# Altium footprint library photo-elements.PCBLIB: 18 footprints (part 1 of 2)
Each footprint in its own frame and in the unit in brackets; x right, y up, seen from the top. Pads: shape width x height; smd on the part's side, far side on the other; paste and mask are expansions set on the pad; w line width, h text height; cw(c..) or ccw(c..) is an arc to the next point about the centre after c.
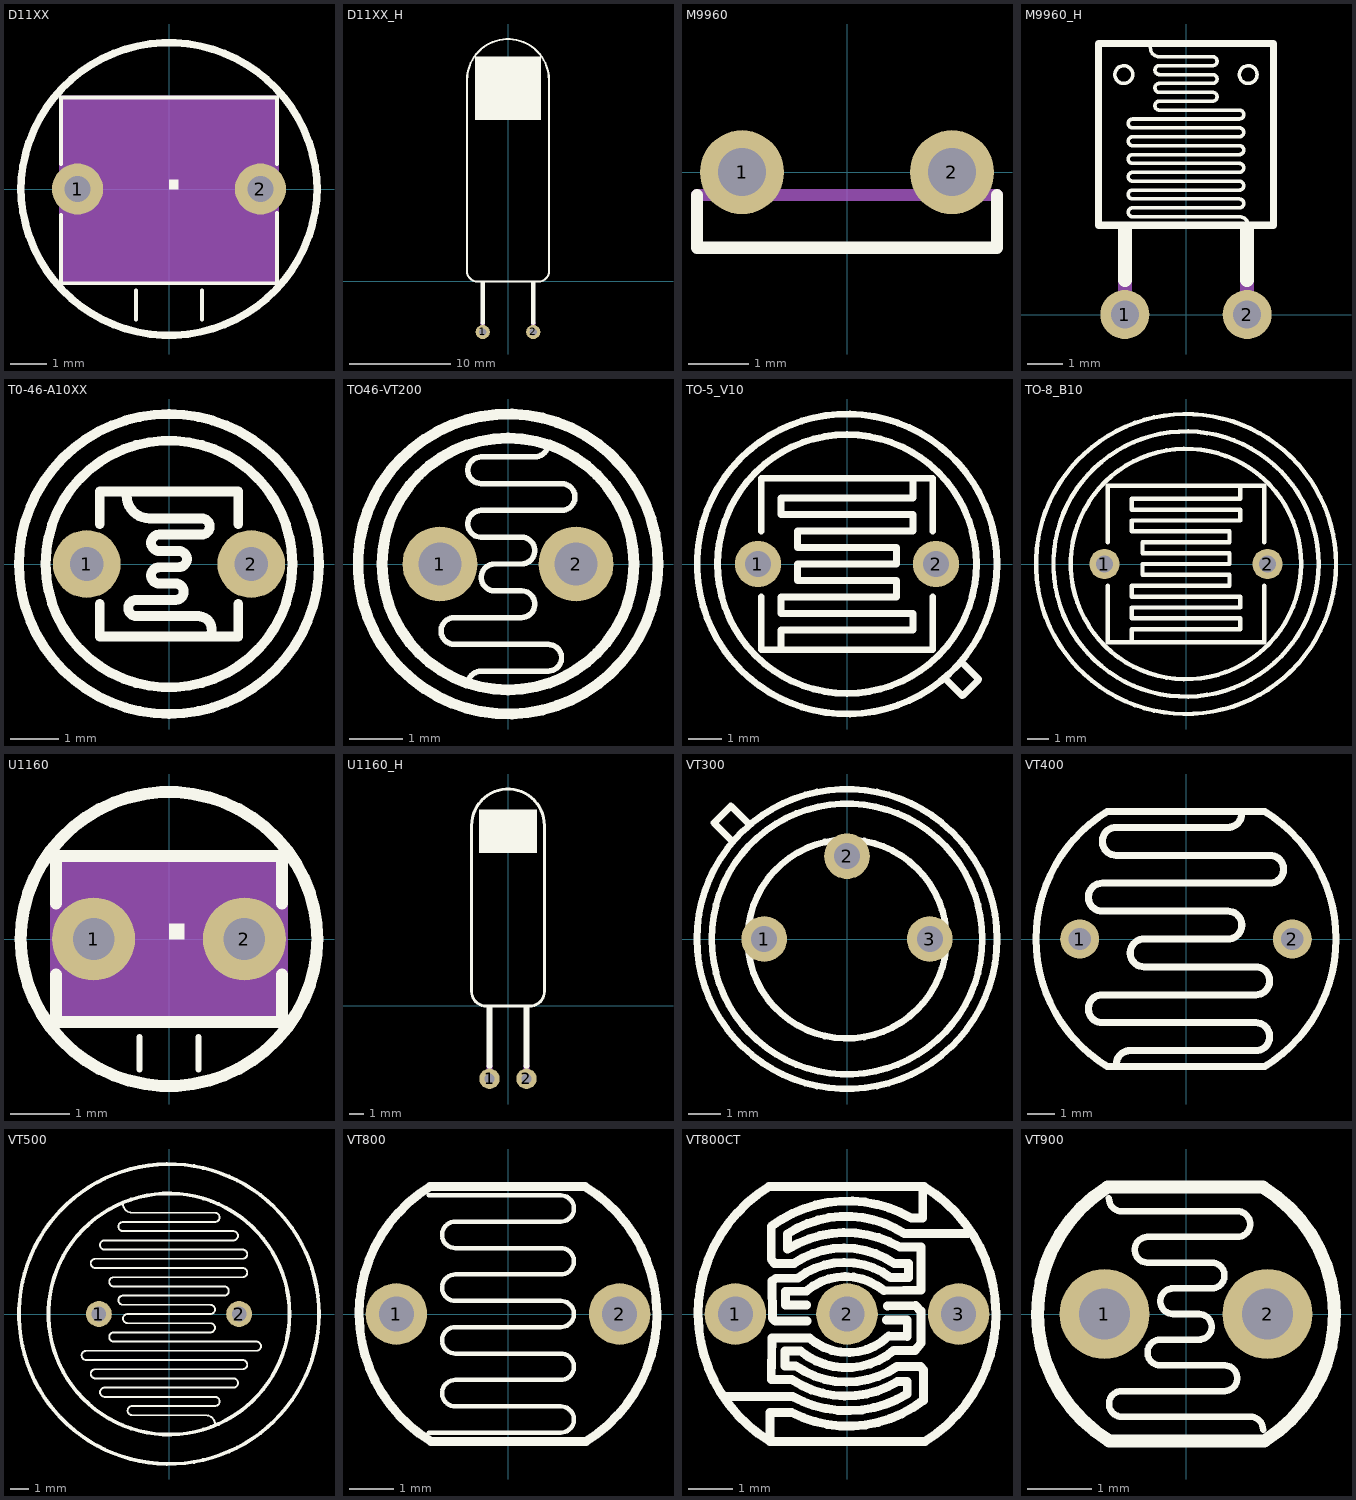
[diagram p0: the footprints below, top view; thin cyan lines are the x and y axes]

## D11XX [mm]
pads (2):
  round 1.4 hole 0.7: 1(-2.5,0) 2(2.5,0)
Top Overlay:
  region: 0,0 0.254,0 0.254,0.254 0,0.254
  region: 0,0 0.254,0 0.254,0.254 0,0.254
  lines w0.102: -2.95,-0.7 -2.95,-2.575 2.95,-2.575 2.95,-0.65 ; -2.95,0.675 -2.95,2.5 2.95,2.5 2.95,0.675 ; -0.9,-3.575 -0.9,-2.775 ; 0.9,-3.575 0.9,-2.775
  lines w0.203: -4.05,-0.05 cw(c0,-0.05) 4.05,-0.05 ; -4.05,0.05 ccw(c0,0.05) 4.05,0.05
Mechanical 16:
  rectangle: -3,-2.625 3,2.55

## D11XX_H [mm]
pads (2):
  round 1.4 hole 0.7: 1(-2.5,-5) 2(2.5,-5)
Top Overlay:
  rectangle: -3.25,16 3.25,22.25
  lines w0.203: -4.05,1 ccw(c-3.05,1) -3.05,0 3.05,0 ccw(c3.05,1) 4.05,1 4.05,19.95 ccw(c0,19.95) -4.05,19.95 -4.05,1
  lines w0.4: -2.5,-4.125 -2.5,-0.15 ; 2.5,-4.125 2.5,-0.15
Mechanical 16:
  lines w0.4: -2.5,-5 -2.5,-4.125 ; 2.5,-5 2.5,-4.125

## M9960 [mil]
pads (2):
  round 55.12 hole 31.5: 1(-68.9,0) 2(68.9,0)
Top Overlay:
  lines w8: -98.43,-14.88 -98.43,-49.61 98.43,-49.61 98.43,-14.88
Mechanical 16:
  lines w8: -98.43,-14.88 98.43,-14.88
  lines w15.75: -68.9,-11.1 -68.9,0 ; 68.9,-11.1 68.9,0

## M9960_H [mil]
pads (2):
  round 55.12 hole 31.5: 1(-68.9,0) 2(68.9,0)
Top Overlay:
  circle w4: c-70,270 r10
  circle w4: c70,270 r10
  lines w4: -40,300 ccw(c-30,300) -30,290 30,290 cw(c30,285) 30,280 -30,280 ccw(c-30,275) -30,270 30,270 cw(c30,265) 30,260 -30,260 ccw(c-30,255) -30,250 30,250 cw(c30,245) 30,240 -30,240 ccw(c-30,235) -30,230 60,230 cw(c60,225) 60,220 -60,220 ccw(c-60,215) -60,210 60,210 cw(c60,205) 60,200 -60,200 ccw(c-60,195) -60,190 60,190 cw(c60,185) 60,180 -60,180 ccw(c-60,175) -60,170 60,170 cw(c60,165) 60,160 -60,160 ccw(c-60,155) -60,150 60,150 cw(c60,145) 60,140 -60,140 ccw(c-60,135) -60,130 60,130 cw(c60,125) 60,120 -60,120 ccw(c-60,115) -60,110 60,110 cw(c60,100) 70,100
  lines w8: -98.43,100.39 -98.43,305.12 98.43,305.12 98.43,100.39 -98.43,100.39
  lines w15.75: -68.9,38.9 -68.9,95.83 ; 68.9,38.9 68.9,95.83
Mechanical 16:
  lines w15.75: -68.9,0 -68.9,38.9 ; 68.9,0 68.9,38.9

## T0-46-A10XX [mm]
pads (2):
  round 1.4 hole 0.7: 1(-1.7,0) 2(1.7,0)
Top Overlay:
  circle w0.203: c0,0 r3.1
  circle w0.203: c0,0 r2.55
  lines w0.203: -1.433,-0.825 -1.433,-1.5 1.433,-1.5 1.433,-0.825 ; -1.433,0.825 -1.433,1.5 1.433,1.5 1.433,0.825 ; -0.876,1.415 ccw(c-0.404,1.415) -0.404,0.943 0.674,0.943 cw(c0.674,0.775) 0.674,0.606 -0.202,0.606 ccw(c-0.202,0.438) -0.202,0.269 0.202,0.269 cw(c0.202,0.101) 0.202,-0.067 -0.202,-0.067 ccw(c-0.202,-0.236) -0.202,-0.404 0.135,-0.404 cw(c0.135,-0.573) 0.135,-0.741 -0.674,-0.741 ccw(c-0.674,-0.909) -0.674,-1.078 0.606,-1.078 cw(c0.606,-1.354) 0.876,-1.415

## TO46-VT200 [mil]
pads (2):
  round 55.12 hole 31.5: 1(-50,0) 2(50,0)
Top Overlay:
  circle w8: c0,0 r110.24
  circle w8: c0,0 r92.52
  lines w4: -29.53,-88.58 cw(c-19.69,-88.58) -19.69,-78.74 29.53,-78.74 ccw(c29.53,-68.9) 29.53,-59.06 -39.37,-59.06 cw(c-39.37,-49.22) -39.37,-39.37 9.84,-39.37 ccw(c9.84,-29.53) 9.84,-19.69 -9.84,-19.69 cw(c-9.84,-9.85) -9.84,0 9.84,0 ccw(c9.84,9.85) 9.84,19.69 -19.69,19.69 cw(c-19.69,29.53) -19.69,39.37 39.37,39.37 ccw(c39.37,49.22) 39.37,59.06 -19.69,59.06 cw(c-19.69,68.9) -19.69,78.74 19.69,78.74 ccw(c19.69,88.58) 29.53,88.58

## TO-5_V10 [mil]
pads (2):
  round 55.12 hole 31.5: 1(-106.3,0) 2(106.3,0)
Top Overlay:
  circle w8: c0,0 r154.57
  circle w8: c0,0 r179.13
  lines w8: -102.36,-39.37 -102.36,-102.36 102.36,-102.36 102.36,-39.37 ; -102.36,39.37 -102.36,102.36 102.36,102.36 102.36,39.37 ; -78.74,-98.43 -78.74,-78.74 78.74,-78.74 78.74,-59.06 -78.74,-59.06 -78.74,-39.37 59.06,-39.37 59.06,-19.69 -59.06,-19.69 -59.06,0 59.06,0 59.06,19.69 -59.06,19.69 -59.06,39.37 78.74,39.37 78.74,59.06 -78.74,59.06 -78.74,78.74 78.74,78.74 78.74,98.43 ; 118.11,-137.8 137.8,-157.48 157.48,-137.8 137.8,-118.11

## TO-8_B10 [mil]
pads (2):
  round 55.12 hole 31.5: 1(-147.64,0) 2(147.64,0)
Top Overlay:
  circle w8: c0,0 r271.66
  circle w8: c0,0 r240.17
  circle w8: c0,0 r208.67
  lines w8: -141.73,-39.37 -141.73,-141.73 141.73,-141.73 141.73,-39.37 ; -141.73,39.37 -141.73,141.73 141.73,141.73 141.73,39.37 ; -98.43,-137.8 -98.43,-118.11 98.43,-118.11 98.43,-98.43 -98.43,-98.43 -98.43,-78.74 98.43,-78.74 98.43,-59.06 -98.43,-59.06 -98.43,-39.37 78.74,-39.37 78.74,-19.69 -78.74,-19.69 -78.74,0 78.74,0 78.74,19.69 -78.74,19.69 -78.74,39.37 78.74,39.37 78.74,59.06 -98.43,59.06 -98.43,78.74 98.43,78.74 98.43,98.43 -98.43,98.43 -98.43,118.11 98.43,118.11 98.43,137.8

## U1160 [mm]
pads (2):
  round 1.4 hole 0.7: 1(-1.27,0) 2(1.27,0)
Top Overlay:
  region: 0,0 0.254,0 0.254,0.254 0,0.254
  region: 0,0 0.254,0 0.254,0.254 0,0.254
  lines w0.102: -0.5,-2.2 -0.5,-1.65 ; 0.5,-2.2 0.5,-1.65
  lines w0.203: -2.5,-0.025 cw(c0,-0.025) 2.5,-0.025 ; -2.5,0.025 ccw(c0,0.025) 2.5,0.025 ; -1.9,-0.6 -1.9,-1.4 1.9,-1.4 1.9,-0.6 ; -1.9,0.6 -1.9,1.4 1.9,1.4 1.9,0.6
Mechanical 16:
  rectangle: -2,-1.5 2,1.5

## U1160_H [mm]
pads (2):
  round 1.4 hole 0.7: 1(-1.27,-5) 2(1.27,-5)
Top Overlay:
  rectangle: -2,10.5 2,13.5
  lines w0.203: -2.5,1 ccw(c-1.5,1) -1.5,0 1.5,0 ccw(c1.5,1) 2.5,1 2.5,12.4 ccw(c0,12.4) -2.5,12.4 -2.5,1
  lines w0.4: -1.27,-4.125 -1.27,-0.15 ; 1.27,-4.125 1.27,-0.15
Mechanical 16:
  lines w0.4: -1.27,-5 -1.27,-4.125 ; 1.27,-5 1.27,-4.125

## VT300 [mil]
pads (3):
  round 55.12 hole 31.5: 1(-100,0) 2(0,100) 3(100,0)
Top Overlay:
  circle w8: c0,0 r120.08
  circle w8: c0,0 r163.39
  circle w8: c0,0 r181.1
  lines w8: -140.16,119.69 -160.63,140.16 -140.16,160.63 -119.69,140.16

## VT400 [mil]
pads (2):
  round 55.12 hole 31.5: 1(-150,0) 2(150,0)
Top Overlay:
  lines w10: -111.22,-180.12 cw(c0,0) -111.22,180.12 ; -110.24,-180.12 108.27,-180.12 ; -108.27,180.12 110.24,180.12 ; -98.43,-177.17 cw(c-78.74,-177.17) -78.74,-157.48 98.43,-157.48 ccw(c98.43,-137.79) 98.43,-118.11 -118.11,-118.11 cw(c-118.11,-98.42) -118.11,-78.74 98.43,-78.74 ccw(c98.43,-59.05) 98.43,-39.37 -59.06,-39.37 cw(c-59.06,-19.68) -59.06,0 59.06,0 ccw(c59.06,19.68) 59.06,39.37 -118.11,39.37 cw(c-118.11,59.05) -118.11,78.74 118.11,78.74 ccw(c118.11,98.42) 118.11,118.11 -98.43,118.11 cw(c-98.43,137.79) -98.43,157.48 59.06,157.48 ccw(c59.05,177.16) 78.74,177.17 ; 111.22,-180.12 ccw(c0,0) 111.22,180.12

## VT500 [mil]
pads (2):
  round 55.12 hole 31.5: 1(-150,0) 2(150,0)
Top Overlay:
  circle w8: c0,0 r320.88
  circle w8: c0,0 r257.89
  lines w4: -98.43,236.22 ccw(c-78.75,236.22) -78.74,216.54 98.43,216.54 cw(c98.43,206.69) 98.43,196.85 -98.43,196.85 ccw(c-98.43,187.01) -98.43,177.17 137.8,177.17 cw(c137.8,167.32) 137.8,157.48 -137.8,157.48 ccw(c-137.8,147.64) -137.8,137.8 157.48,137.8 cw(c157.48,127.95) 157.48,118.11 -157.48,118.11 ccw(c-157.48,108.27) -157.48,98.43 157.48,98.43 cw(c157.48,88.58) 157.48,78.74 -118.11,78.74 ccw(c-118.11,68.9) -118.11,59.06 118.11,59.06 cw(c118.11,49.22) 118.11,39.37 -98.43,39.37 ccw(c-98.43,29.53) -98.43,19.69 88.58,19.69 cw(c88.58,9.85) 88.58,0 -88.58,0 ccw(c-88.58,-9.85) -88.58,-19.69 88.58,-19.69 cw(c88.58,-29.53) 88.58,-39.37 -118.11,-39.37 ccw(c-118.11,-49.22) -118.11,-59.06 187.01,-59.06 cw(c187.01,-68.9) 187.01,-78.74 -177.17,-78.74 ccw(c-177.17,-88.58) -177.17,-98.43 157.48,-98.43 cw(c157.48,-108.27) 157.48,-118.11 -157.48,-118.11 ccw(c-157.48,-127.95) -157.48,-137.8 137.8,-137.8 cw(c137.8,-147.64) 137.8,-157.48 -137.8,-157.48 ccw(c-137.8,-167.32) -137.8,-177.17 98.43,-177.17 cw(c98.43,-187.01) 98.43,-196.85 -78.74,-196.85 ccw(c-78.74,-206.69) -78.74,-216.54 78.74,-216.54 cw(c78.75,-236.22) 98.43,-236.22

## VT800 [mil]
pads (2):
  round 55.12 hole 31.5: 1(-100,0) 2(100,0)
Top Overlay:
  lines w4: -70.87,-106.3 47.24,-106.3 ccw(c47.24,-94.49) 47.24,-82.68 -47.24,-82.68 cw(c-47.24,-70.87) -47.24,-59.06 47.24,-59.06 ccw(c47.24,-47.24) 47.24,-35.43 -47.24,-35.43 cw(c-47.24,-23.62) -47.24,-11.81 47.24,-11.81 ccw(c47.24,0) 47.24,11.81 -47.24,11.81 cw(c-47.24,23.62) -47.24,35.43 47.24,35.43 ccw(c47.24,47.24) 47.24,59.06 -47.24,59.06 cw(c-47.24,70.87) -47.24,82.68 47.24,82.68 ccw(c47.24,94.49) 47.24,106.3 -70.87,106.3
  lines w8: -69.88,114.17 68.9,114.17 cw(c-0.49,-0.3) 69.88,-114.17 -68.9,-114.17 cw(c0.49,0.3) -69.88,114.17

## VT800CT [mil]
pads (3):
  round 55.12 hole 31.5: 1(-100,0) 2(0,0) 3(100,0)
Top Overlay:
  lines w8: -107.89,-73.7 -49.14,-73.7 ccw(c0.58,15.47) 53.94,-71.57 53.94,-60.35 45.4,-60.35 cw(c-0.8,13.88) -49.47,-58.75 -67.83,-58.75 -67.3,-21.36 -33.65,-21.36 ccw(c1.02,17.4) 37.39,-19.76 53.94,-20.3 53.94,-5.34 35.53,-5.34 ; -68.9,-108.96 -68.9,-88.13 -49.67,-88.13 ccw(c0.93,10.1) 68.36,-77.44 68.36,-50.2 65.69,-47 44.86,-47 cw(c-0.15,18.22) -45.93,-46.46 -55.55,-46.46 -55.55,-33.11 -41.66,-33.11 ccw(c-0.22,16.9) 41.86,-32.58 60.89,-32.58 66.23,-26.17 66.23,2.67 61.42,7.48 36.35,7.03 ; -36.07,8.01 -55.01,8.01 -55.01,20.3 -36.42,20.67 cw(c-1.48,-20.65) 33.28,20.83 66.23,21.36 66.23,59.82 47.54,59.82 ccw(c-1.35,-24.78) -53.15,58.07 -53.15,71.85 cw(c-0.75,-7.97) 51.27,72.1 107.89,72.1 ; -35.78,-6.41 -64.09,-6.41 -66.76,-3.74 -67.3,29.37 -63.56,32.05 -44.08,32.05 cw(c-2.11,-22.65) 39.16,32.58 55.01,32.58 55.12,45.28 42.32,45.28 ccw(c-2.7,-20.88) -47.54,45.4 -65.16,45.4 -67.83,49.14 -67.83,78.51 cw(c0.63,-13.52) 57.68,85.99 67.83,85.99 67.83,108.96 ; -69.88,114.17 68.9,114.17 cw(c-0.49,-0.3) 69.88,-114.17 -68.9,-114.17 cw(c0.49,0.3) -69.88,114.17

## VT900 [mil]
pads (2):
  round 55.12 hole 31.5: 1(-50,0) 2(50,0)
Top Overlay:
  lines w4: -47.24,70.87 ccw(c-39.37,70.86) -39.37,62.99 31.5,62.99 cw(c31.5,55.12) 31.5,47.24 -23.62,47.24 ccw(c-23.62,39.37) -23.62,31.5 15.75,31.5 cw(c15.75,23.62) 15.75,15.75 -7.87,15.75 ccw(c-7.87,7.88) -7.87,0 7.87,0 cw(c7.87,-7.88) 7.87,-15.75 -15.75,-15.75 ccw(c-15.75,-23.62) -15.75,-31.5 23.62,-31.5 cw(c23.62,-39.37) 23.62,-47.24 -39.37,-47.24 ccw(c-39.37,-55.12) -39.37,-62.99 39.37,-62.99 cw(c39.37,-70.86) 47.24,-70.87
  lines w8: -48.23,77.76 ccw(c0.5,0.31) -47.24,-77.76 47.24,-77.76 ; -47.24,77.76 47.24,77.76 cw(c-0.5,-0.31) 48.23,-77.76